# Altium footprint library corporatecam.PcbLib: 52 footprints (part 3 of 4)
Each footprint in its own frame and in the unit in brackets; x right, y up, seen from the top. Pads: shape width x height; smd on the part's side, far side on the other; paste and mask are expansions set on the pad; w line width, h text height; cw(c..) or ccw(c..) is an arc to the next point about the centre after c.
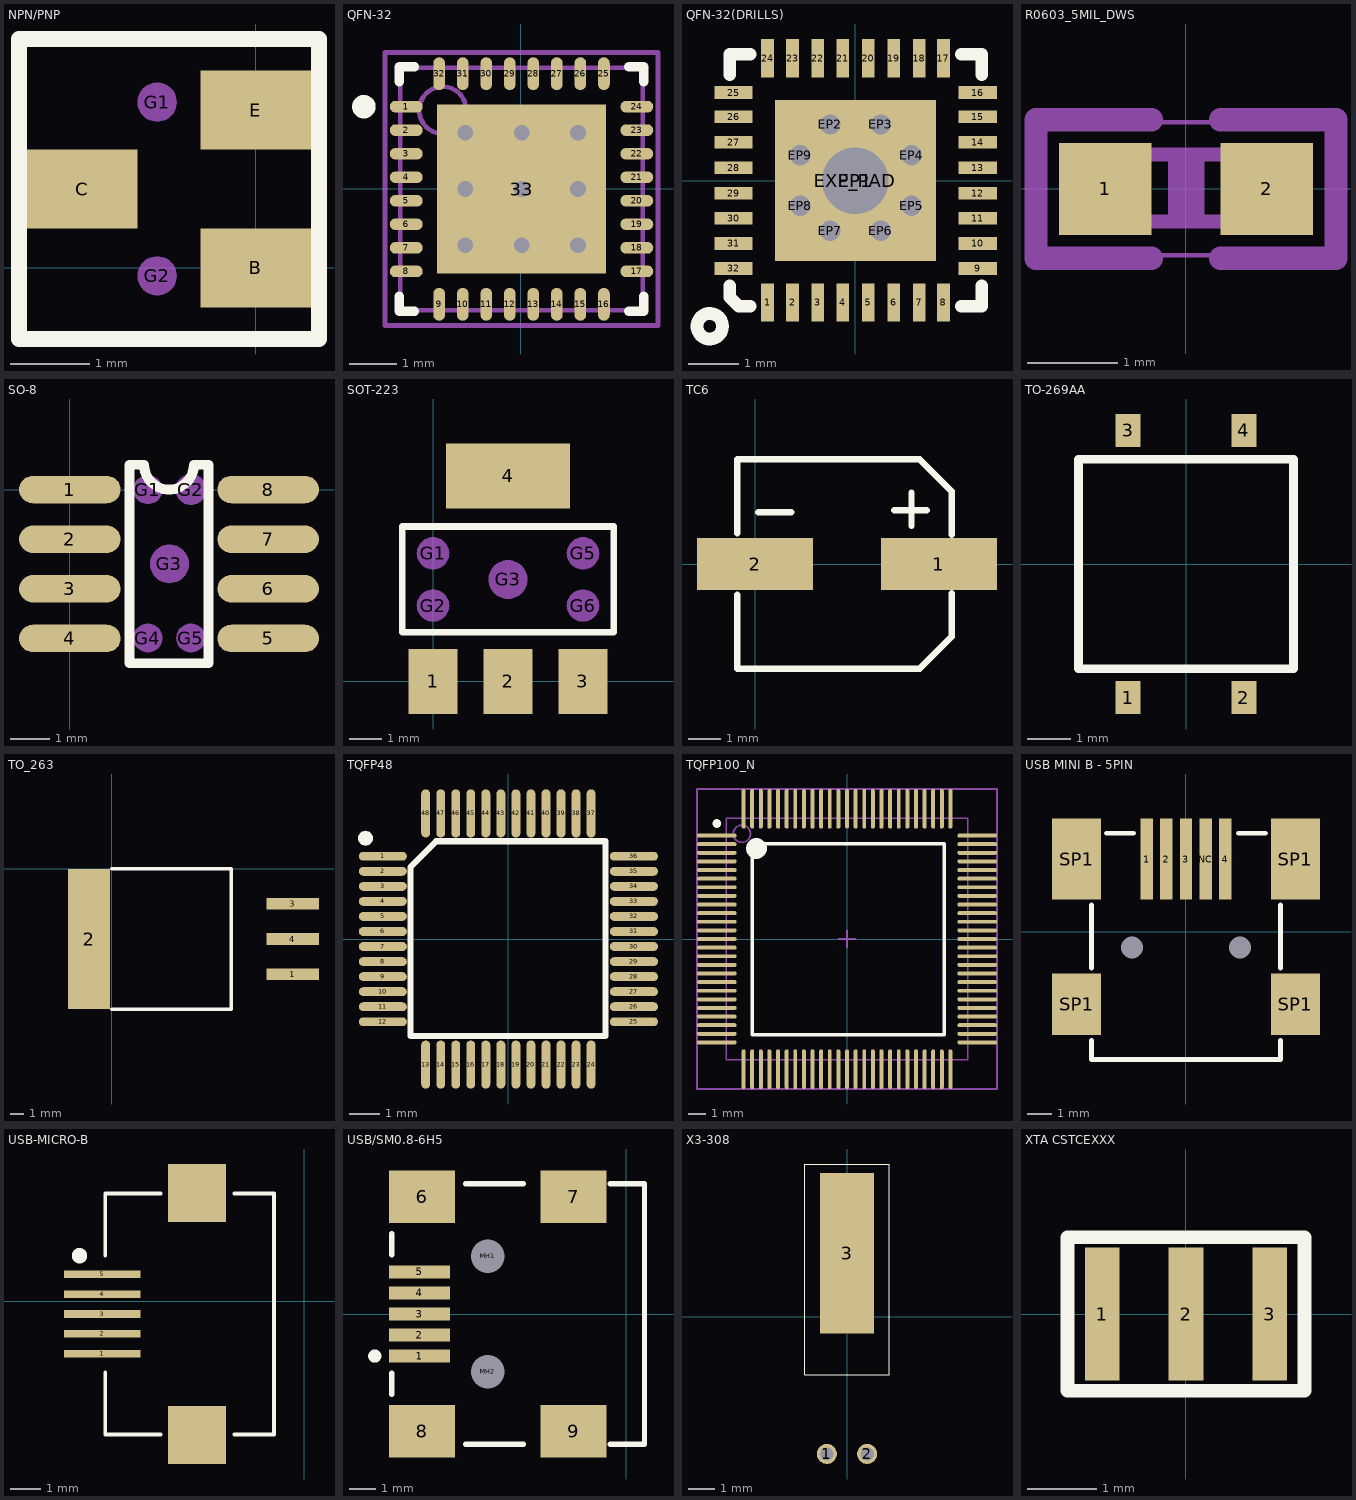
[diagram p2: the footprints below, top view; thin cyan lines are the x and y axes]

## NPN/PNP [mm]
pads (5):
  rect 1.4x1 smd paste-0.061: B(0,0) C(-2.2,1) E(0,2)
  round 0.5 on Mech7: G1(-1.25,2.1) G2(-1.25,-0.1)
Top Overlay:
  lines w0.2: -3,-0.9 0.8,-0.9 0.8,2.9 -3,2.9 -3,-0.9

## QFN-32 [mm]
pads (33):
  oval 0.7x0.25 smd: 1(-2.43,1.74) 2(-2.43,1.24) 3(-2.43,0.74) 4(-2.43,0.24) 5(-2.43,-0.26) 6(-2.43,-0.76) 7(-2.43,-1.26) 8(-2.43,-1.76) 17(2.47,-1.76) 18(2.47,-1.26) 19(2.47,-0.76) 20(2.47,-0.26) 21(2.47,0.24) 22(2.47,0.74) 23(2.47,1.24) 24(2.47,1.74)
  oval 0.25x0.7 smd: 9(-1.73,-2.46) 10(-1.23,-2.46) 11(-0.73,-2.46) 12(-0.23,-2.46) 13(0.27,-2.46) 14(0.77,-2.46) 15(1.27,-2.46) 16(1.77,-2.46) 25(1.77,2.44) 26(1.27,2.44) 27(0.77,2.44) 28(0.27,2.44) 29(-0.23,2.44) 30(-0.73,2.44) 31(-1.23,2.44) 32(-1.73,2.44)
  rect 3.6x3.6 smd: 33(0.02,-0.01)
via -1.18,1.19 diameter 0.66 hole 0.33
via 0.02,1.19 diameter 0.66 hole 0.33
via 1.22,1.19 diameter 0.66 hole 0.33
via -1.18,-0.01 diameter 0.66 hole 0.33
via 0.02,-0.01 diameter 0.66 hole 0.33
via 1.22,-0.01 diameter 0.66 hole 0.33
via -1.18,-1.21 diameter 0.66 hole 0.33
via 0.02,-1.21 diameter 0.66 hole 0.33
via 1.22,-1.21 diameter 0.66 hole 0.33
Top Overlay:
  circle w0.25: c-3.33,1.74 r0.125
  lines w0.2: -2.58,-2.285 -2.58,-2.61 -2.255,-2.61 ; -2.58,2.265 -2.58,2.59 -2.255,2.59 ; 2.295,-2.61 2.62,-2.61 2.62,-2.285 ; 2.295,2.59 2.62,2.59 2.62,2.265
Mechanical 13:
  circle w0.1: c-1.655,1.665 r0.5
  lines w0.1: -2.555,-2.585 -2.555,2.565 2.595,2.565 2.595,-2.585 -2.555,-2.585
Mechanical 15:
  lines w0.1: -0.48,-0.01 0.52,-0.01 ; 0.02,-0.51 0.02,0.49 ; -2.88,-2.91 -2.88,2.89 2.92,2.89 2.92,-2.91 -2.88,-2.91
3D body: height 0.8, standoff 0, extent -2.555,-2.585 2.595,2.565

## QFN-32(DRILLS) [mil] "QFN-32(DRILLS)"
pads (42):
  rect 10x30 smd: 1(-68.9,-95.47) 2(-49.21,-95.47) 3(-29.53,-95.47) 4(-9.84,-95.47) 5(10,-95.47) 6(30,-95.47) 7(50,-95.47) 8(69,-95.47) 17(69,96) 18(50,96) 19(30,96) 20(10,96) 21(-9.84,96) 22(-29.53,96) 23(-49.21,96) 24(-68.9,96)
  rect 30x10 smd: 9(96,-68.9) 10(96,-49.21) 11(96,-29.53) 12(96,-9.84) 13(96,10) 14(96,30) 15(96,50) 16(96,69) 25(-95.47,69) 26(-95.47,50) 27(-95.47,30) 28(-95.47,10) 29(-95.47,-9.84) 30(-95.47,-29.53) 31(-95.47,-49.21) 32(-95.47,-68.9)
  round 78 hole 52: EP1(0,0)
  round 24 hole 16: EP2(-19.68,44) EP3(20,44) EP4(44,20) EP5(44,-19.68) EP6(20,-39.37) EP7(-19.68,-39.37) EP8(-43.31,-19.68) EP9(-43.31,20)
  rect 126x126 smd: EXP_PAD(0,0)
Top Overlay:
  circle w10: c-114.17,-114.17 r10
  lines w10: -98.43,-82.68 -98.43,-91.54 -91.54,-98.43 -82.68,-98.43 ; -98.43,83 -98.43,99 -82.68,99 ; 83,-98.43 99,-98.43 99,-82.68 ; 83,99 99,99 99,83
Top Paste:
  rectangle: 28,-11.81 56,12
  rectangle: 24,-55.12 56,-27.56
  rectangle: -15.75,-55.12 16,-27.56
  rectangle: -55.12,-55.12 -27.56,-27.56
  rectangle: -55.12,-11.81 -27.56,12
  rectangle: -11.81,28 12,56
  rectangle: 28,28 56,56
  rectangle: -55.12,28 -27.56,56
Mechanical 2:
  text ">NAME" at -100,-175 h77.5
Mechanical 4:
  text ">VALUE" at -125,125 h77.5

## R0603_5MIL_DWS [mil] "R0603_5MIL_DWS"
pads (2):
  rect 40x40 smd: 1(-35,0) 2(35,0)
Mechanical 2:
Mechanical 4:
Mechanical 6:
  rectangle: -7.87,-15.75 8,16
Mechanical 16:
  rectangle: -33,-17 -17,17
  rectangle: 17,-17 33,17
  lines w6: -17.01,-14.02 18,-14.02 ; -17.01,15 18,15
Mechanical 25:
  lines w10: -15,-30 -65,-30 -65,30 -15,30 ; 15,-30 65,-30 65,30 15,30
Mechanical 27:
  lines w2: -62.99,-28.7 -62.99,29 63,29 63,-28.7 -62.99,-28.7

## SO-8 [mm]
pads (13):
  oval 2.6x0.7 smd paste-0.056: 1(0,0) 2(0,-1.27) 3(0,-2.54) 4(0,-3.81) 5(5.08,-3.81) 6(5.08,-2.54) 7(5.08,-1.27) 8(5.08,0)
  round 0.75 on Mech7: G1(2,0) G4(2,-3.8) G5(3.1,-3.8)
  round 0.8 on Mech7: G2(3.1,0)
  round 1 on Mech7 paste-0.052: G3(2.55,-1.9)
Top Overlay:
  lines w0.254: 1.524,-4.445 3.556,-4.445 3.556,-1.778 3.556,0.635 3.175,0.635 cw(c2.54,0.635) 1.905,0.635 1.524,0.635 1.524,-4.445

## SOT-223 [mm]
pads (9):
  rect 1.5x2 smd paste-0.09: 1(0,0) 2(2.3,0) 3(4.6,0)
  rect 3.8x2 smd paste-0.138: 4(2.3,6.3)
  round 1 on Mech7 paste-0.052: G1(0,3.925) G2(0,2.325) G5(4.6,3.925) G6(4.6,2.325)
  round 1.2 on Mech7: G3(2.3,3.125)
Top Overlay:
  lines w0.2: -0.95,1.5 5.55,1.5 5.55,4.75 -0.95,4.75 -0.95,1.5

## TC6 [mm]
pads (2):
  rect 3.6x1.6 smd paste-0.115: 1(5.7,0) 2(0,0)
Top Overlay:
  lines w0.2: -0.55,-0.95 -0.55,-3.25 5.1,-3.25 6.1,-2.25 6.1,-0.9 ; -0.55,0.95 -0.55,3.25 5.1,3.25 6.1,2.25 6.1,0.9 ; 0.1,1.598 1.116,1.598 ; 4.312,1.673 5.328,1.673 ; 4.85,1.19 4.85,2.206

## TO-269AA [mm]
pads (4):
  rect 0.58x0.76 smd paste-0.09: 1(-1.335,-3.075) 2(1.335,-3.075) 3(-1.335,3.075) 4(1.335,3.075)
Top Overlay:
  lines w0.2: -2.475,-2.413 -2.475,2.413 ; -2.413,-2.413 2.413,-2.413 ; -2.413,2.413 2.413,2.413 ; 2.475,-2.413 2.475,2.413

## TO_263 [mil]
pads (4):
  rect 150x33 smd: 1(515,-300) 3(515,-100) 4(515,-200)
  rect 120x400 smd: 2(-65,-200)
Top Overlay:
  lines w10: 0,-400 340,-400 340,0 0,0

## TQFP48 [mm]
pads (49):
  oval 1.6x0.295 smd paste-0.025: 1(-4.175,2.75) 2(-4.175,2.25) 3(-4.175,1.75) 4(-4.175,1.25) 5(-4.175,0.75) 6(-4.175,0.25) 7(-4.175,-0.25) 8(-4.175,-0.75) 9(-4.175,-1.25) 10(-4.175,-1.75) 11(-4.175,-2.25) 12(-4.175,-2.75) 25(4.175,-2.75) 26(4.175,-2.25) 27(4.175,-1.75) 28(4.175,-1.25) 29(4.175,-0.75) 30(4.175,-0.25) 31(4.175,0.25) 32(4.175,0.75) 33(4.175,1.25) 34(4.175,1.75) 35(4.175,2.25) 36(4.175,2.75)
  oval 0.295x1.6 smd paste-0.025: 13(-2.75,-4.175) 14(-2.25,-4.175) 15(-1.75,-4.175) 16(-1.25,-4.175) 17(-0.75,-4.175) 18(-0.25,-4.175) 19(0.25,-4.175) 20(0.75,-4.175) 21(1.25,-4.175) 22(1.75,-4.175) 23(2.25,-4.175) 24(2.75,-4.175) 37(2.75,4.175) 38(2.25,4.175) 39(1.75,4.175) 40(1.25,4.175) 41(0.75,4.175) 42(0.25,4.175) 43(-0.25,4.175) 44(-0.75,4.175) 45(-1.25,4.175) 46(-1.75,4.175) 47(-2.25,4.175) 48(-2.75,4.175)
  round 0.5 on Top Overlay paste-0.052: ""(-4.75,3.35)
Top Overlay:
  lines w0.2: -3.25,-3.225 -3.25,2.4 -2.4,3.25 3.225,3.25 3.225,-3.225 -3.25,-3.225

## TQFP100_N [mm] "Thin QFP, 100-Leads, Body 14x14mm, Pitch 0.5mm, IPC Medium Density"
height 1.6
pads (100):
  oval 2.3x0.229 smd: 1(-7.55,6) 2(-7.55,5.5) 3(-7.55,5) 4(-7.55,4.5) 5(-7.55,4) 6(-7.55,3.5) 7(-7.55,3) 8(-7.55,2.5) 9(-7.55,2) 10(-7.55,1.5) 11(-7.55,1) 12(-7.55,0.5) 13(-7.55,0) 14(-7.55,-0.5) 15(-7.55,-1) 16(-7.55,-1.5) 17(-7.55,-2) 18(-7.55,-2.5) 19(-7.55,-3) 20(-7.55,-3.5) 21(-7.55,-4) 22(-7.55,-4.5) 23(-7.55,-5) 24(-7.55,-5.5) 25(-7.55,-6) 51(7.55,-6) 52(7.55,-5.5) 53(7.55,-5) 54(7.55,-4.5) 55(7.55,-4) 56(7.55,-3.5) 57(7.55,-3) 58(7.55,-2.5) 59(7.55,-2) 60(7.55,-1.5) 61(7.55,-1) 62(7.55,-0.5) 63(7.55,0) 64(7.55,0.5) 65(7.55,1) 66(7.55,1.5) 67(7.55,2) 68(7.55,2.5) 69(7.55,3) 70(7.55,3.5) 71(7.55,4) 72(7.55,4.5) 73(7.55,5) 74(7.55,5.5) 75(7.55,6)
  oval 0.229x2.3 smd: 26(-6,-7.55) 27(-5.5,-7.55) 28(-5,-7.55) 29(-4.5,-7.55) 30(-4,-7.55) 31(-3.5,-7.55) 32(-3,-7.55) 33(-2.5,-7.55) 34(-2,-7.55) 35(-1.5,-7.55) 36(-1,-7.55) 37(-0.5,-7.55) 38(0,-7.55) 39(0.5,-7.55) 40(1,-7.55) 41(1.5,-7.55) 42(2,-7.55) 43(2.5,-7.55) 44(3,-7.55) 45(3.5,-7.55) 46(4,-7.55) 47(4.5,-7.55) 48(5,-7.55) 49(5.5,-7.55) 50(6,-7.55) 76(6,7.55) 77(5.5,7.55) 78(5,7.55) 79(4.5,7.55) 80(4,7.55) 81(3.5,7.55) 82(3,7.55) 83(2.5,7.55) 84(2,7.55) 85(1.5,7.55) 86(1,7.55) 87(0.5,7.55) 88(0,7.55) 89(-0.5,7.55) 90(-1,7.55) 91(-1.5,7.55) 92(-2,7.55) 93(-2.5,7.55) 94(-3,7.55) 95(-3.5,7.55) 96(-4,7.55) 97(-4.5,7.55) 98(-5,7.55) 99(-5.5,7.55) 100(-6,7.55)
Top Overlay:
  circle w0.6: c-5.25,5.25 r0.3
  circle w0.25: c-7.55,6.7 r0.125
  lines w0.2: -5.486,-5.563 5.639,-5.563 5.639,5.537 -5.486,5.537 -5.486,-5.563
Mechanical 13:
  circle w0.1: c-6.1,6.1 r0.5
  lines w0.1: -7,-7 7,-7 7,7 -7,7 -7,-7
Mechanical 15:
  lines w0.1: -0.5,0 0.5,0 ; 0,-0.5 0,0.5 ; -8.7,-8.7 8.7,-8.7 8.7,8.7 -8.7,8.7 -8.7,-8.7
3D body: height 1.6, standoff 0, extent -7,-7 7,7

## USB MINI B - 5PIN [mm]
pads (11):
  rect 0.5x3.3 smd paste-0.044 mask+0.15: 1(-1.6,2.95) 2(-0.8,2.95) 3(0,2.95) 4(1.6,2.95) NC(0.8,2.95)
  round 0 hole 0.9 unplated: H1(-2.2,-0.65) H2(2.2,-0.65)
  rect 2x2.5 smd paste-0.12: SP1(-4.45,-2.95) SP1(4.45,-2.95)
  rect 2x3.3 smd paste-0.12: SP1(-4.45,2.95) SP1(4.45,2.95)
Top Overlay:
  lines w0.2: -3.85,-4.425 -3.85,-5.2 3.85,-5.2 3.85,-4.425 ; -3.85,-1.475 -3.85,1.075 ; -3.225,4 -2.125,4 ; 2.125,4 3.225,4 ; 3.85,-1.475 3.85,1.075
3D body: height 3.95, standoff -1, extent -5.35,-6.555 5.35,2.645

## USB-MICRO-B [mm] "Connector; USB2.0, Type A, SM; 5 Position; Right Angle"
height 3.9
pads (7):
  rect 2.5x0.25 smd: 1(-6.6,-1.719) 2(-6.6,-1.069) 3(-6.6,-0.419) 4(-6.6,0.231) 5(-6.6,0.881)
  rect 1.9x1.9 smd: ""(-3.505,-4.369) ""(-3.505,3.531)
Top Overlay:
  circle w0.25: c-7.348,1.486 r0.125
  lines w0.127: -6.508,-4.356 -4.7,-4.356 ; -6.508,-4.319 -6.508,-2.324 ; -6.508,1.486 -6.508,3.481 ; -6.508,3.518 -4.7,3.518 ; -2.286,-4.356 -1,-4.356 ; -2.286,3.518 -1,3.518 ; -1,-4.319 -1,3.481
3D body: height 2.71, standoff -0.23, extent -6.358,-4.422 -0.928,3.558

## USB/SM0.8-6H5 [mm]
pads (11):
  rect 2.3x0.5 smd: 1(-7.85,-1.6) 2(-7.85,-0.8) 3(-7.85,0) 4(-7.85,0.8) 5(-7.85,1.6)
  rect 2.5x2 smd: 6(-7.75,4.45) 7(-1.996,4.45) 8(-7.75,-4.45) 9(-1.996,-4.45)
  round 0.6 hole 1.27 unplated: MH1(-5.25,2.2) MH2(-5.25,-2.2)
Top Overlay:
  circle w0.25: c-9.55,-1.6 r0.125
  lines w0.2: -8.9,-3.05 -8.9,-2.25 ; -8.9,2.25 -8.9,3.05 ; -6.1,-4.95 -3.9,-4.95 ; -6.1,4.95 -3.9,4.95 ; -0.6,-4.95 0.7,-4.95 0.7,4.95 -0.6,4.95

## X3-308 [mil] "X3-308"
pads (3):
  round 30 hole 20: 1(-30,-205) 2(30,-205)
  rect 80x240 smd: 3(0,95)
Top Overlay:
  lines w1: -62.99,-86.89 -62.99,228.07 62.99,228.07 62.99,-86.89 -62.99,-86.89
Mechanical 8:
  text "2" at 20,-205 h25
  text "3" at -10,95 h25
  text "1" at -40,-205 h25

## XTA CSTCEXXX [mm] "Murata Resonator Crystal 3.2mm x1.3mm"
pads (3):
  rect 0.5x1.9 smd paste-0.035: 1(-1.2,0) 2(0,0) 3(1.2,0)
Top Overlay:
  lines w0.2: -1.7,-1.1 -1.7,1.1 1.7,1.1 1.7,-1.1 -1.7,-1.1